# Altium schematic symbol library Ind_Murata_LQH32CN101K23L_eec.SchLib: 1 symbol
Pins are listed as number, name and electrical type; pins without a type are passive.

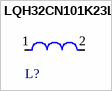
[diagram p0: symbol LQH32CN101K23L]

## LQH32CN101K23L
designator L?  (value not drawn)
pins: 1, 2